# EAGLE library part PINHEAD3 (library pinhead3)
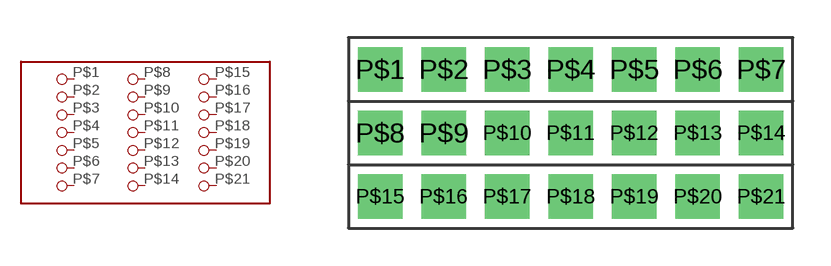
[diagram p0: symbol with the pads of PINHEAD3; footprint PINHEAD3]

Designator prefix -

## PINHEAD3  [PINHEAD3]
P$1  P$1
P$2  P$2
P$3  P$3
P$4  P$4
P$5  P$5
P$6  P$6
P$7  P$7
P$8  P$8
P$9  P$9
P$10  P$10
P$11  P$11
P$12  P$12
P$13  P$13
P$14  P$14
P$15  P$15
P$16  P$16
P$17  P$17
P$18  P$18
P$19  P$19
P$20  P$20
P$21  P$21

## Footprint PINHEAD3 (pad centres in mm)
drill 1 pad 1.778 square: P$1 -7.62,2.54; P$2 -5.08,2.54; P$3 -2.54,2.54; P$4 0,2.54; P$5 2.54,2.54; P$6 5.08,2.54; P$7 7.62,2.54; P$8 -7.62,0; P$9 -5.08,0; P$10 -2.54,0; P$11 0,0; P$12 2.54,0; P$13 5.08,0; P$14 7.62,0; P$15 -7.62,-2.54; P$16 -5.08,-2.54; P$17 -2.54,-2.54; P$18 0,-2.54; P$19 2.54,-2.54; P$20 5.08,-2.54; P$21 7.62,-2.54